# Altium schematic symbol library 249KP1A OSM.Schlib: 1 symbol
Pins are listed as number, name and electrical type; pins without a type are passive.

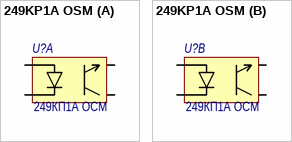
[diagram p0: symbol 249KP1A OSM]

## 249KP1A OSM
designator U?  Наименование: 249КП1А ОСМ  (hidden comment: 249KP1A OSM)
Назначение: Оптопара
footprint 249КП1
part A pins: 2 29, 3 29, 11 29, 13 29
part B pins: 4, 6, 9, 10